# Altium integrated library ST Logic Special Function.IntLib: 5 symbols
Pins are listed as number, name and electrical type; pins without a type are passive.

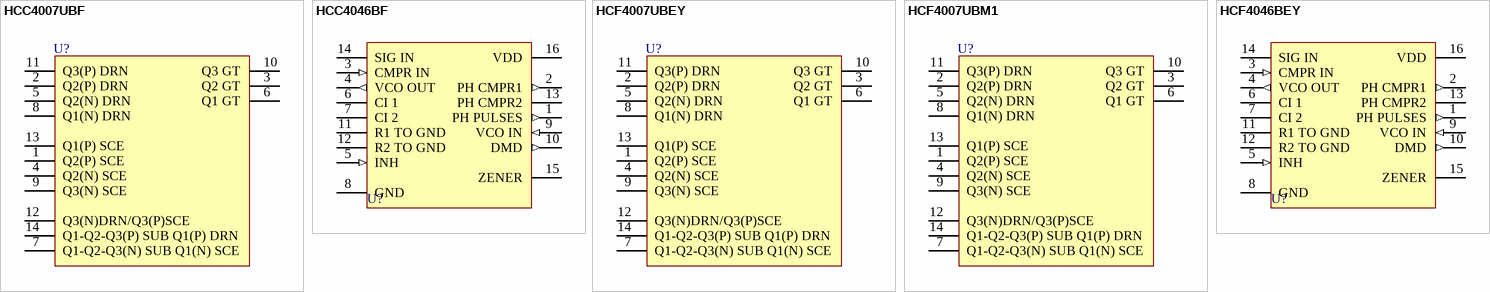
[diagram p0: symbols HCC4007UBF to HCF4046BEY]

## HCC4007UBF
designator U?
Dual Complementary Pair Plus Inverter; Published: 8-Jun-2000; LatestRevisionDate: 4-Mar-2005; LatestRevisionNote: Stylized 3D Model Added.; DatasheetDocument: Sep-1988; PackageReference: CDIP14; Publisher: Altium Limited; ComponentLink1Description: Manufacturer Link; ComponentLink1URL: http://www.st.com/
footprint CDIP14 (DIP; 14 Leads; Row Spacing 7.62 mm; Pitch 2.54 mm)
3D model CDIP14 (DIP; 14 Leads; Row Spacing 7.62 mm; Pitch 2.54 mm)
pins: 1 Q2(P) SCE, 2 Q2(P) DRN, 3 Q2 GT, 4 Q2(N) SCE, 5 Q2(N) DRN, 6 Q1 GT, 7 Q1-Q2-Q3(N) SUB Q1(N) SCE, 8 Q1(N) DRN, 9 Q3(N) SCE, 10 Q3 GT, 11 Q3(P) DRN, 12 Q3(N)DRN/Q3(P)SCE, 13 Q1(P) SCE, 14 Q1-Q2-Q3(P) SUB Q1(P) DRN

## HCC4046BF
designator U?
Micropower Phase-Locked Loop; Published: 8-Jun-2000; LatestRevisionDate: 4-Mar-2005; LatestRevisionNote: Stylized 3D Model Added.; DatasheetDocument: Jun-1989; PackageDocument: Apr-1996; PackageReference: DIP16; Publisher: Altium Limited; ComponentLink1Description: Manufacturer Link; ComponentLink1URL: http://www.st.com/
footprint DIP16 (DIP; 16 Leads; Row Spacing 7.62 mm; Pitch 2.54 mm)
3D model DIP16 (DIP; 16 Leads; Row Spacing 7.62 mm; Pitch 2.54 mm)
pins: 1 PH PULSES (out), 2 PH CMPR1 (out), 3 CMPR IN (in), 4 VCO OUT (out), 5 INH (in), 6 CI 1, 7 CI 2, 8 GND (power), 9 VCO IN (in), 10 DMD (out), 11 R1 TO GND, 12 R2 TO GND, 13 PH CMPR2 (hiz), 14 SIG IN, 15 ZENER, 16 VDD (power)

## HCF4007UBEY
designator U?
Dual Complementary Pair Plus Inverter; Published: 8-Jun-2000; LatestRevisionDate: 4-Mar-2005; LatestRevisionNote: Stylized 3D Model Added.; DatasheetDocument: Sep-1988; PackageDocument: Jan-1997; PackageReference: DIP14; Publisher: Altium Limited; ComponentLink1Description: Manufacturer Link; ComponentLink1URL: http://www.st.com/; ComponentLink2Description: Datasheet; ComponentLink2URL: http://www.st.com/stonline/products/literature/ds/2009/hcf4007u.pdf
footprint DIP14 (DIP; 14 Leads; Row Spacing 7.62 mm; Pitch 2.54 mm)
3D model CDIP14 (DIP; 14 Leads; Row Spacing 7.62 mm; Pitch 2.54 mm)
pins: 1 Q2(P) SCE, 2 Q2(P) DRN, 3 Q2 GT, 4 Q2(N) SCE, 5 Q2(N) DRN, 6 Q1 GT, 7 Q1-Q2-Q3(N) SUB Q1(N) SCE, 8 Q1(N) DRN, 9 Q3(N) SCE, 10 Q3 GT, 11 Q3(P) DRN, 12 Q3(N)DRN/Q3(P)SCE, 13 Q1(P) SCE, 14 Q1-Q2-Q3(P) SUB Q1(P) DRN

## HCF4007UBM1
designator U?
Dual Complementary Pair Plus Inverter; Published: 8-Jun-2000; LatestRevisionDate: 4-Mar-2005; LatestRevisionNote: Stylized 3D Model Added.; DatasheetDocument: Sep-1988; PackageDocument: Sep-1998; PackageReference: SO14; Publisher: Altium Limited; ComponentLink1Description: Manufacturer Link; ComponentLink1URL: http://www.st.com/; ComponentLink2Description: Datasheet; ComponentLink2URL: http://www.st.com/stonline/products/literature/ds/2009/hcf4007u.pdf
footprint SO14 (Small Outline; 14 Leads; Body Width 3.9 mm; Pitch 1.27 mm)
3D model SO14 (Small Outline; 14 Leads; Body Width 3.9 mm; Pitch 1.27 mm)
pins: 1 Q2(P) SCE, 2 Q2(P) DRN, 3 Q2 GT, 4 Q2(N) SCE, 5 Q2(N) DRN, 6 Q1 GT, 7 Q1-Q2-Q3(N) SUB Q1(N) SCE, 8 Q1(N) DRN, 9 Q3(N) SCE, 10 Q3 GT, 11 Q3(P) DRN, 12 Q3(N)DRN/Q3(P)SCE, 13 Q1(P) SCE, 14 Q1-Q2-Q3(P) SUB Q1(P) DRN

## HCF4046BEY
designator U?
Micropower Phase-Locked Loop; Published: 8-Jun-2000; LatestRevisionDate: 4-Mar-2005; LatestRevisionNote: Stylized 3D Model Added.; DatasheetDocument: Jun-1989; PackageDocument: Apr-1996; PackageReference: DIP16; Publisher: Altium Limited; ComponentLink1Description: Manufacturer Link; ComponentLink1URL: http://www.st.com/; ComponentLink2Description: Datasheet; ComponentLink2URL: http://www.st.com/stonline/products/literature/ds/2049/hcf4046.pdf
footprint DIP16 (DIP; 16 Leads; Row Spacing 7.62 mm; Pitch 2.54 mm)
3D model DIP16 (DIP; 16 Leads; Row Spacing 7.62 mm; Pitch 2.54 mm)
pins: 1 PH PULSES (out), 2 PH CMPR1 (out), 3 CMPR IN (in), 4 VCO OUT (out), 5 INH (in), 6 CI 1, 7 CI 2, 8 GND (power), 9 VCO IN (in), 10 DMD (out), 11 R1 TO GND, 12 R2 TO GND, 13 PH CMPR2 (hiz), 14 SIG IN, 15 ZENER, 16 VDD (power)